# Altium footprint library Teensy 3-5 24POS 2ROW SMD.PcbLib: 1 footprints
Each footprint in its own frame and in the unit in brackets; x right, y up, seen from the top. Pads: shape width x height; smd on the part's side, far side on the other; paste and mask are expansions set on the pad; w line width, h text height; cw(c..) or ccw(c..) is an arc to the next point about the centre after c.
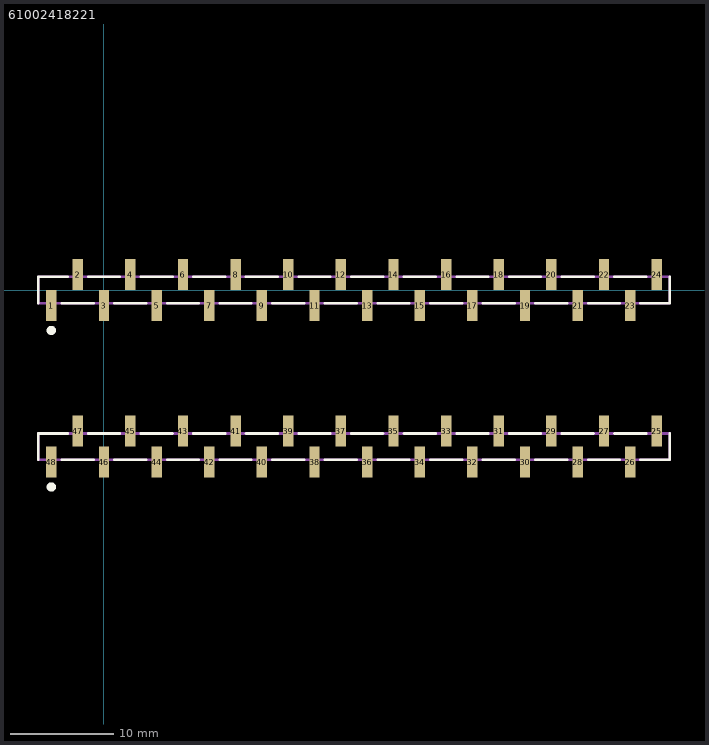
[diagram p0: the footprint, top view; thin cyan lines are the x and y axes]

## 61002418221 [mm]
pads (48):
  rect 1x3 smd: 1(-5.08,-1.5) 2(-2.54,1.5) 3(0,-1.5) 4(2.54,1.5) 5(5.08,-1.5) 6(7.62,1.5) 7(10.16,-1.5) 8(12.7,1.5) 9(15.24,-1.5) 10(17.78,1.5) 11(20.32,-1.5) 12(22.86,1.5) 13(25.4,-1.5) 14(27.94,1.5) 15(30.48,-1.5) 16(33.02,1.5) 17(35.56,-1.5) 18(38.1,1.5) 19(40.64,-1.5) 20(43.18,1.5) 21(45.72,-1.5) 22(48.26,1.5) 23(50.8,-1.5) 24(53.34,1.5) 25(53.34,-13.613) 26(50.8,-16.613) 27(48.26,-13.613) 28(45.72,-16.613) 29(43.18,-13.613) 30(40.64,-16.613) 31(38.1,-13.613) 32(35.56,-16.613) 33(33.02,-13.613) 34(30.48,-16.613) 35(27.94,-13.613) 36(25.4,-16.613) 37(22.86,-13.613) 38(20.32,-16.613) 39(17.78,-13.613) 40(15.24,-16.613) 41(12.7,-13.613) 42(10.16,-16.613) 43(7.62,-13.613) 44(5.08,-16.613) 45(2.54,-13.613) 46(0,-16.613) 47(-2.54,-13.613) 48(-5.08,-16.613)
L26-Silk Screen Top (Multiple PADS layers...):
  circle w0.5: c-5.089,-3.896 r0.198
  circle w0.5: c-5.089,-19.009 r0.198
  lines w0.254: -6.35,-16.383 -6.35,-13.843 -3.498,-13.843 ; -6.35,-1.27 -6.35,1.27 -3.498,1.27 ; -4.07,-16.383 -1.01,-16.383 ; -4.07,-1.27 -1.01,-1.27 ; -1.53,-13.843 1.53,-13.843 ; -1.53,1.27 1.53,1.27 ; 1.01,-16.383 4.07,-16.383 ; 1.01,-1.27 4.07,-1.27 ; 3.55,-13.843 6.61,-13.843 ; 3.55,1.27 6.61,1.27 ; 6.09,-16.383 9.15,-16.383 ; 6.09,-1.27 9.15,-1.27 ; 8.63,-13.843 11.69,-13.843 ; 8.63,1.27 11.69,1.27 ; 11.17,-16.383 14.23,-16.383 ; 11.17,-1.27 14.23,-1.27 ; 13.71,-13.843 16.77,-13.843 ; 13.71,1.27 16.77,1.27 ; 16.25,-16.383 19.31,-16.383 ; 16.25,-1.27 19.31,-1.27 ; 18.79,-13.843 21.85,-13.843 ; 18.79,1.27 21.85,1.27 ; 21.33,-16.383 24.39,-16.383 ; 21.33,-1.27 24.39,-1.27 ; 23.87,-13.843 26.93,-13.843 ; 23.87,1.27 26.93,1.27 ; 26.41,-16.383 29.47,-16.383 ; 26.41,-1.27 29.47,-1.27 ; 28.95,-13.843 32.01,-13.843 ; 28.95,1.27 32.01,1.27 ; 31.49,-16.383 34.55,-16.383 ; 31.49,-1.27 34.55,-1.27 ; 34.03,-13.843 37.09,-13.843 ; 34.03,1.27 37.09,1.27 ; 36.57,-16.383 39.63,-16.383 ; 36.57,-1.27 39.63,-1.27 ; 39.11,-13.843 42.17,-13.843 ; 39.11,1.27 42.17,1.27 ; 41.65,-16.383 44.71,-16.383 ; 41.65,-1.27 44.71,-1.27 ; 44.19,-13.843 47.25,-13.843 ; 44.19,1.27 47.25,1.27 ; 46.73,-16.383 49.79,-16.383 ; 46.73,-1.27 49.79,-1.27 ; 49.27,-13.843 52.33,-13.843 ; 49.27,1.27 52.33,1.27 ; 51.757,-16.383 54.61,-16.383 54.61,-13.843 ; 51.757,-1.27 54.61,-1.27 54.61,1.27
L15 (Multiple PADS layers...):
  lines w0.254: -6.35,-16.383 -6.35,-13.843 54.61,-13.843 54.61,-16.383 -6.35,-16.383 ; -6.35,-1.27 54.61,-1.27 54.61,1.27 -6.35,1.27 -6.35,-1.27